# EAGLE library part MICROCLASP-10-DUAL (library Molex)
Microclasp 10 crkt Header Datasheet <http://www.molex.com/pdm_docs/sd/559591030_sd.pdf>
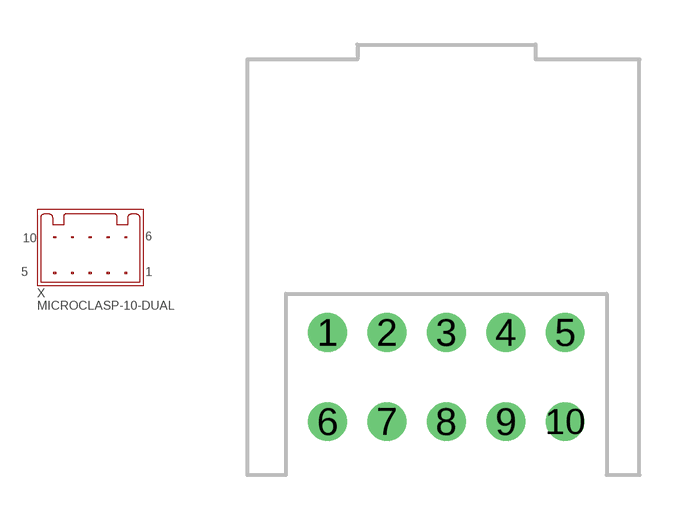
[diagram p16: symbol with the pads of MICROCLASP-10-DUAL-RA; footprint MICROCLASP-10-DUAL-RA]

Designator prefix X

## MICROCLASP-10-DUAL (PARTNO: 55959-1030)  [MICROCLASP-10-DUAL-RA]
1  1
2  2
3  3
4  4
5  5
6  6
7  7
8  8
9  9
10  10

## Footprint MICROCLASP-10-DUAL-RA (pad centres in mm)
drill 0.8 round: 1 -4,0; 2 -2,0; 3 0,0; 4 2,0; 5 4,0; 6 -4,-3; 7 -2,-3; 8 0,-3; 9 2,-3; 10 4,-3